# EAGLE library part FTSH-107-01-L-DV-K-A (library FTSH-107-01-L-DV-K-A)
14 position, High Reliability Header Strips, 0.050" pitch, Dual-Row Vertical Source: Datasheet <http://suddendocs.samtec.com/prints/ftsh-1xx-xx-xxx-dv-xxx-xxx-mkt.pdf>
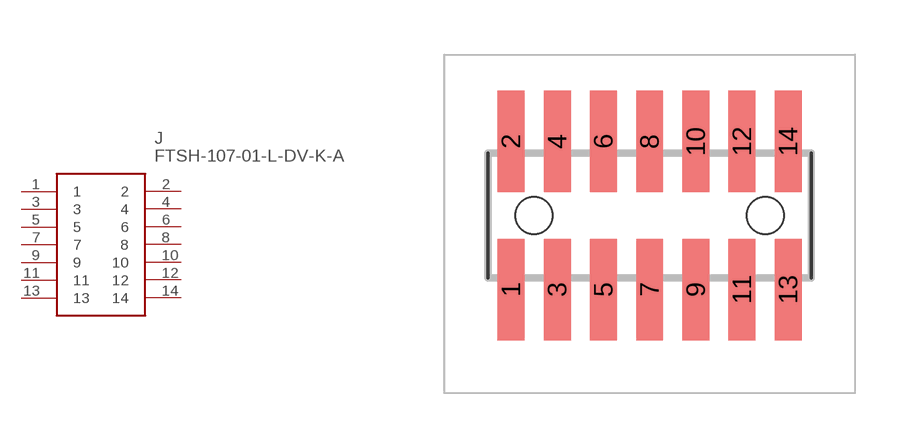
[diagram p0: symbol with the pads of FTSH-107-XX-YYY-DV-K-A; footprint FTSH-107-XX-YYY-DV-K-A]

Designator prefix J

## FTSH-107-01-L-DV-K-A (Description: 14 position, High Reliability Header Strips, 0.050&quot; pitch, Dual-Row Vertical; Height: mm; Manufacturer_Name: SAMTEC; Manufacturer_Part_Number: FTSH-107-01-L-DV-K-A; Mouser_Part_Number: 200-FTSH10701LDVKA; Mouser_Price-Stock: https://www.mouser.co.uk/ProductDetail/Samtec/FTSH-107-01-L-DV-K-A?qs=PB6%2FjmICvI3xEHFou4PhNg%3D%3D)  [FTSH-107-XX-YYY-DV-K-A]
1  1
2  2
3  3
4  4
5  5
6  6
7  7
8  8
9  9
10  10
11  11
12  12
13  13
14  14

## Footprint FTSH-107-XX-YYY-DV-K-A (pad centres in mm)
FTSH-107-XX-YYY-DV-K-A
smd 0.74 x 2.79: 1 -3.81,-2.035; 2 -3.81,2.035; 3 -2.54,-2.035; 4 -2.54,2.035; 5 -1.27,-2.035; 6 -1.27,2.035; 7 0,-2.035; 8 0,2.035; 9 1.27,-2.035; 10 1.27,2.035; 11 2.54,-2.035; 12 2.54,2.035; 13 3.81,-2.035; 14 3.81,2.035
hole 1.02 at -3.175,0
hole 1.02 at 3.175,0